# Altium schematic symbol library STPS1L40M.SchLib: 1 symbol
Pins are listed as number, name and electrical type; pins without a type are passive.

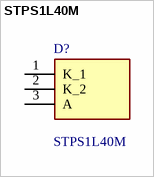
[diagram p0: symbol STPS1L40M]

## STPS1L40M
designator D?
STMICROELECTRONICS - STPS1L40M - SCHOTTKY RECTIFIER, 1A, 40V, DO-216AA; Geometry.Height: 1mm; Mouser Part Number: 511-STPS1L40M; Mouser Price/Stock: https://www.mouser.co.uk/ProductDetail/STMicroelectronics/STPS1L40M?qs=1tTY8DFIKADyj1WerxBVhA%3D%3D; Manufacturer_Name: STMicroelectronics; Manufacturer_Part_Number: STPS1L40M; Datasheet Link: http://www.st.com/content/ccc/resource/technical/document/datasheet/62/69/a4/97/73/11/43/c2/CD00003015.pdf/files/CD00003015.pdf/jcr:content/translations/en.CD00003015.pdf
footprint STPS1L40M
pins: 1 K_1, 2 K_2, 3 A